# EAGLE library part LTC3400 (library PowerProducts)
600mA, 1.2MHz Micropower Synchronous Boost Converters in ThinSOT
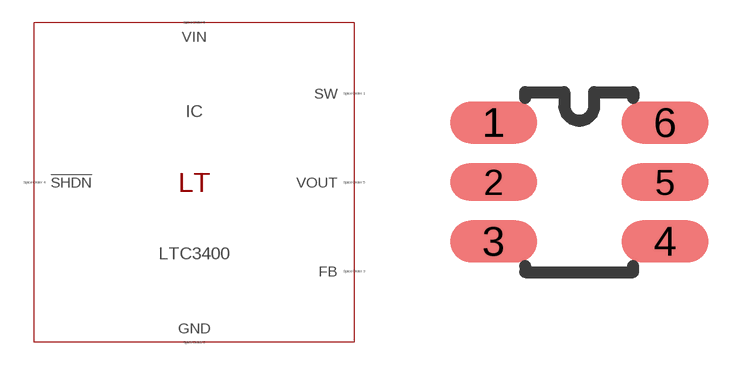
[diagram p157: symbol with the pads of SOT6(S6); footprint SOT6(S6)]

Designator prefix IC

## LTC3400 (SPICEMODEL: LTC3400.sub; SPICEPREFIX: X; VALUE2: LTC3400)  [SOT6(S6)]
1  SW  pas
2  GND  pas
3  FB  pas
4  !SHDN  pas
5  VOUT  pas
6  VIN  pas

## Footprint SOT6(S6) (pad centres in mm)
Package generated from: SOT6(S6).asc (!PADS-POWERPCB-V9.3-BASIC! DESIGN DATABASE ASCII FILE 1.0) with :import-pads-powerpcb-v5.ulp Version 1.0.1 at 04.10.2012 14:11:36
smd 2.175 x 1.05: 1 -2.145,1.485; 3 -2.145,-1.485; 4 2.145,-1.485; 6 2.145,1.485
smd 2.175 x 0.93: 2 -2.145,0; 5 2.145,0